# EAGLE library part 692121230100 (library WR-USB)
WR-USB Standard Connectors Characteristics Widely used Type-A and Type-B connectors, available in different orientation Various mount types: SMT, THT, THR Pin configuration: 4 pins for USB 2.0 / 9 pins for USB 3.x Durable and backward compatible with older USB versions UL, TID listing for USB standards Applications Office and desktop computing systems Industrial control and automation equipment Consumer electronics and peripherals Audio-visual and broadcast systems Details see: www.we-online.com/en/components/products/INPUT_OUTPUT_WR_USB_STANDARD Updated by Ella 2026-07-03 2026 (C) Würth Elektronik
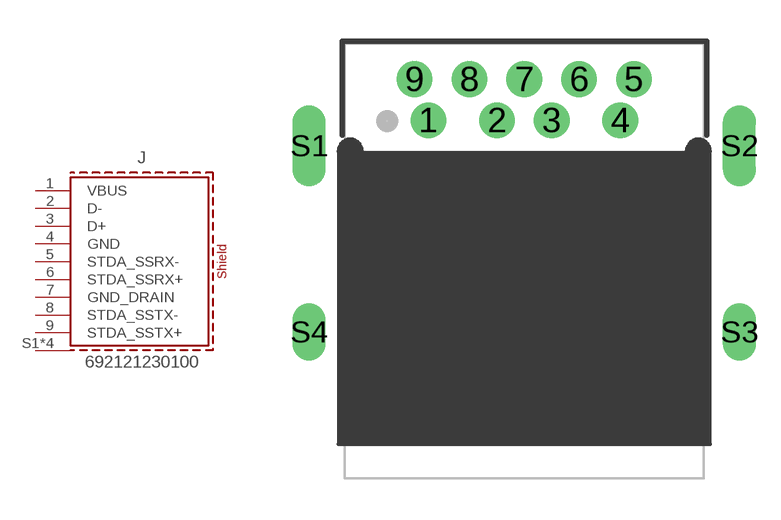
[diagram p17: symbol with the pads of 692121230100; footprint 692121230100]

Designator prefix J

## 692121230100 (APPLICATION: USB 3.0; DATASHEET: https://www.we-online.com/redexpert/spec/692121230100?ae; GERDER: Receptacle; INTERFACE-TYPE: Type A; IR: 1.8 A; MOUNT: THR; PACKAGING: Tape and Reel; PART-NUMBER: 692121230100; PINS: 9pcs; TYPE: Horizontal; VALUE: 692121230100; WORKING-VOLTAGE: 30 V (AC))  [692121230100]
1  VBUS  pas
2  D-  pas
3  D+  pas
4  GND  pas
5  STDA_SSRX-  pas
6  STDA_SSRX+  pas
7  GND_DRAIN  pas
8  STDA_SSTX-  pas
9  STDA_SSTX+  pas
S1  SHIELD  pas
S2  SHIELD  pas
S3  SHIELD  pas
S4  SHIELD  pas

## Footprint 692121230100 (pad centres in mm)
WR-USB Standard Connectors USB 3.0, Type A, Horizontal THR, 9Pins
drill 0.7 pad 1.3: 1 -3.5,5.145; 2 -1,5.145; 3 1,5.145; 4 3.5,5.145; 5 4,6.645; 6 2,6.645; 7 0,6.645; 8 -2,6.645; 9 -4,6.645
drill 0.6 pad 1.2 slot 2.35 rotated 90: S1 -7.85,4.215; S2 7.85,4.215
drill 0.6 pad 1.2 slot 1.5 rotated 90: S3 7.85,-2.585; S4 -7.85,-2.585